# Altium schematic symbol library transistors.schlib: 30 symbols
Pins are listed as number, name and electrical type; pins without a type are passive.

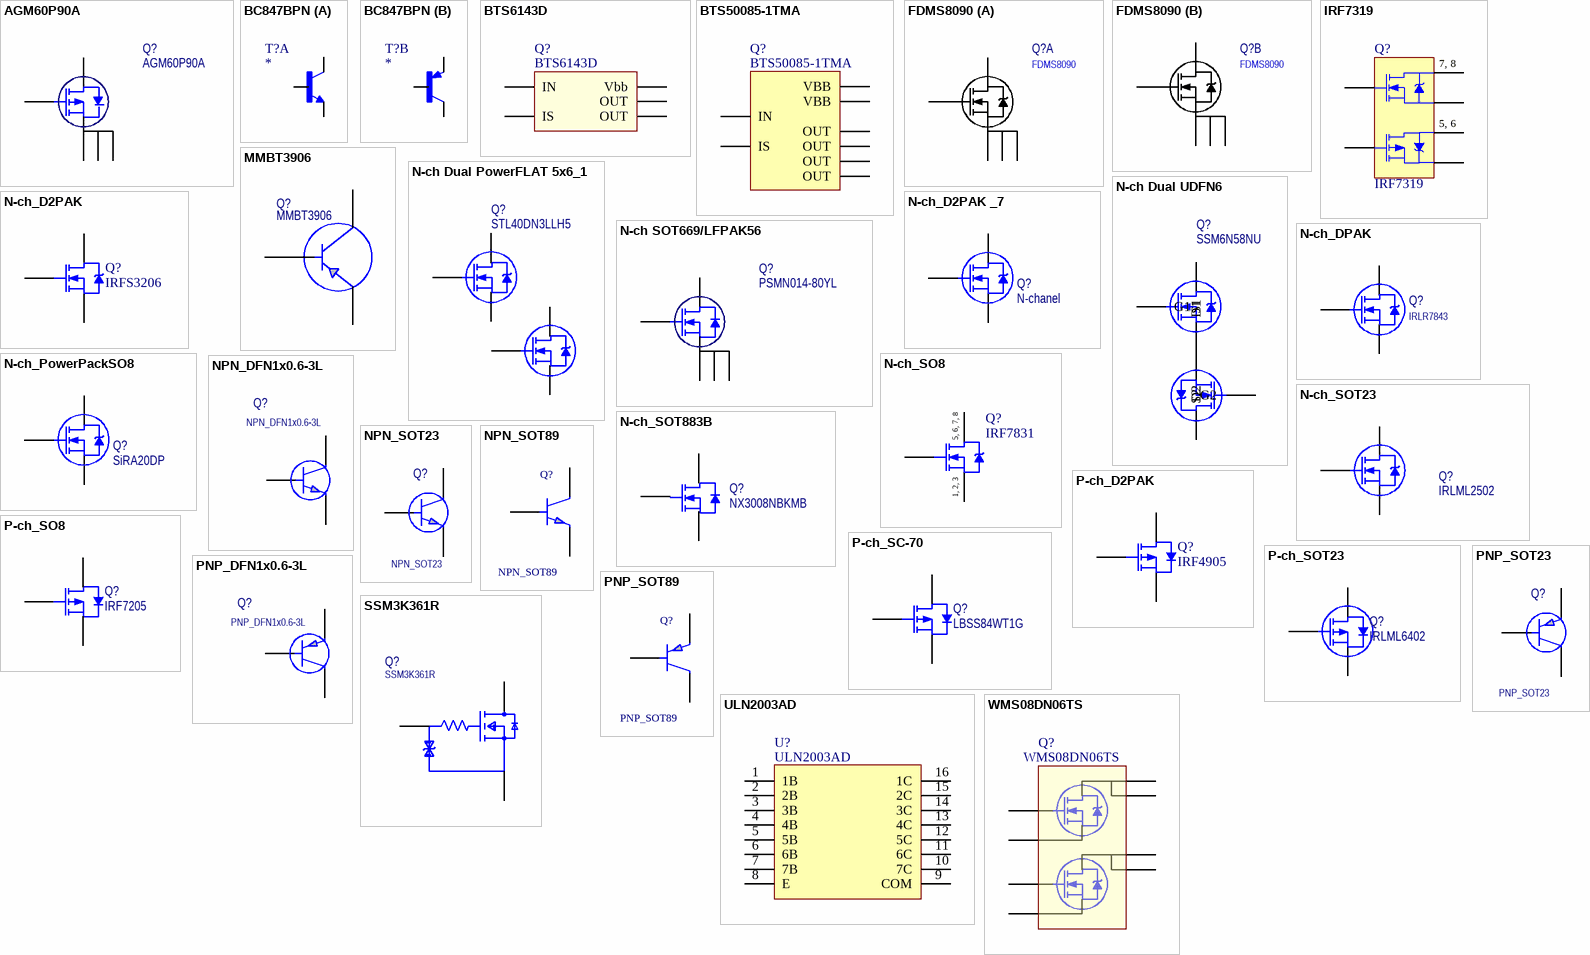
[diagram p0: symbols AGM60P90A to WMS08DN06TS]

## AGM60P90A
designator Q?
Power MOSFET P-ch; Part: AGM60P90A; JLCPCBPart: C5373095
footprint PDFN-8(5x6)
pins: 1 S "source", 2 S "source", 3 S "source", 4 G "gate", 5 D "mounting base; connected to drain"

## BC847BPN
designator T?
Bipolar (BJT) Transistor Array NPN, PNP 45V 100mA 100MHz 300mW Surface Mount 6-TSSOP; MP: BC847BPN; MF: Nexperia USA; Package: SOT-363 Nexperia USA; Purchase-URL: https://pricing.snapeda.com/search/part/BC847BPN/?ref=eda; Price: None; Availability: In Stock; Check_prices: https://www.snapeda.com/parts/BC847BPN/Nexperia/view-part/?ref=eda; Value: *; SnapEDA_Link: https://www.snapeda.com/parts/BC847BPN/Nexperia/view-part/?ref=snap; Part: BC847BPN
footprint SOT363
part A pins: 1 E, 2 B, 6 C
part B pins: 3 C, 4 E, 5 B

## BTS6143D
designator Q?
footprint TO252-5
pins: 1 OUT, 2 IN, 3 Vbb, 4 IS, 5 OUT

## BTS50085-1TMA
designator Q?
footprint PG-TO220-7-4
pins: 1 OUT, 2 OUT, 3 IN, 4 VBB, 5 IS, 6 OUT, 7 OUT, 8 VBB

## FDMS8090
designator Q?
Dual N-ch Mosfet
footprint WDFN8 5x6, 1.27P (WDFN8 5x6, 1.27P ON semicond)
part A pins: 1 G, 2 S, 3 S, 4 S, 10 D
part B pins: 5 S, 6 S, 7 S, 8 G, 9 D

## IRF7319
designator Q?
HEXFET Power MOSFET; Published: 8-Jun-2000; LatestRevisionDate: 13-Apr-2006; LatestRevisionNote: IPC-7351 Footprint Added.; DatasheetVersion: Sep-1997; PackageVersion: Feb-2001; PackageReference: SO-8; Publisher: Altium Limited; PackageDescription: 8-Pin Plastic Small Outline Integrated Circuit 1.27 mm Pitch; Code_JEDEC: MS-012-AA; Code_IPC: SOIC127P600-8; ComponentLink1Description: Manufacturer Link; ComponentLink1URL: http://www.irf.com/; ComponentLink2Description: Datasheet; ComponentLink2URL: http://www.irf.com/product-info/datasheets/data/IRFN140.pdf
footprint SO-8 (SOIC, 8-Leads, Body 4.9x3.9mm, Pitch 1.27mm, IPC Medium Density)
footprint SO-8_L (SOIC, 8-Leads, Body 4.9x3.9mm, Pitch 1.27mm, IPC High Density)
footprint SO-8_M (SOIC, 8-Leads, Body 4.9x3.9mm, Pitch 1.27mm, IPC Low Density)
pins: 1 S1, 2 G1, 3 S2, 4 G2, 5 D2, 6 D2, 7 D1, 8 D1
text: 7, 8; 5, 6

## MMBT3906
designator Q?
footprint SOT23
pins: 1, 2, 3

## N-ch Dual PowerFLAT 5x6_1
designator Q?, comment STL40DN3LLH5
Dual N-ch Mosfet
footprint PowerFlat 5x6
pins: 1 G, 2 S, 3 D, 4 G, 5 S, 6 D

## N-ch Dual UDFN6
designator Q?, comment SSM6N58NU
Dual N-ch Mosfet
footprint UDFN6 (Tocshiba)
pins: 1 S1, 2 G1, 3 D2, 4 S2, 5 G2, 6 D1

## N-ch SOT669/LFPAK56
designator Q?, comment PSMN014-80YL
Power MOSFET
footprint SOT669_LFPAK56; Power-SO8 (DPAK, 4-Leads, Body 5x4.1mm, Pitch 1.27mm, IPC Low Density)
pins: 1 S "source", 2 S "source", 3 S "source", 4 G "gate", 5 D "mounting base; connected to drain"

## N-ch_D2PAK
designator Q?, comment IRFS3206
HEXFET Power MOSFET; Published: 17-Sep-2003; LatestRevisionDate: 20-Nov-2009; LatestRevisionNote: IPC-7351 Footprint Added.; DatasheetVersion: 2-Jan-2002; PackageReference: D2PAK; Publisher: Altium Limited; PackageDescription: 3-Pin Transistor Outline Package 2.54 mm Pitch, 15.1 mm Lead Span; ComponentLink1Description: Manufacturer Link; ComponentLink1URL: http://www.irf.com/; ComponentLink2Description: Datasheet; ComponentLink2URL: http://www.irf.com/product-info/datasheets/data/irl3713.pdf
footprint D2PAK
pins: 1 G, 2 D, 3 S

## N-ch_D2PAK _7
designator Q?, comment N-chanel
HEXFET Power MOSFET
footprint D2PAK_7
pins: 1 G, 2 S, 3 D

## N-ch_DPAK
designator Q?, comment IRLR7843
HEXFET Power MOSFET; Published: 17-Sep-2003; LatestRevisionDate: 20-Nov-2009; LatestRevisionNote: IPC-7351 Footprint Added.; DatasheetVersion: 2-Jan-2002; PackageReference: D2PAK; Publisher: Altium Limited; PackageDescription: 3-Pin Transistor Outline Package 2.54 mm Pitch, 15.1 mm Lead Span; ComponentLink1Description: Manufacturer Link; ComponentLink1URL: http://www.irf.com/; ComponentLink2Description: Datasheet; ComponentLink2URL: http://www.irf.com/product-info/datasheets/data/irl3713.pdf
footprint DPAK TO252AA
pins: 1 G, 2 D, 3 S

## N-ch_PowerPackSO8
designator Q?, comment SiRA20DP
N-ch_PowerPackSO8
footprint PowerPack SO-8
pins: 1 G, 2 S, 3 D

## N-ch_SO8
designator Q?, comment IRF7831
HEXFET Power MOSFET; Published: 17-Sep-2003; LatestRevisionDate: 13-Apr-2006; LatestRevisionNote: IPC-7351 Footprint Added.; DatasheetVersion: 10-Oct-2000; PackageVersion: Feb-2001; PackageReference: SO-8; Publisher: Altium Limited; PackageDescription: 8-Pin Plastic Small Outline Integrated Circuit 1.27 mm Pitch; Code_JEDEC: MS-012-AA; Code_IPC: SOIC127P600-8; ComponentLink1Description: Manufacturer Link; ComponentLink1URL: http://www.irf.com/; ComponentLink2Description: Datasheet; ComponentLink2URL: http://www.irf.com/product-info/datasheets/data/irf7805.pdf
footprint SO-8 (SOIC, 8-Leads, Body 4.9x3.9mm, Pitch 1.27mm, IPC Medium Density)
footprint SO-8_L (SOIC, 8-Leads, Body 4.9x3.9mm, Pitch 1.27mm, IPC High Density)
footprint SO-8_M (SOIC, 8-Leads, Body 4.9x3.9mm, Pitch 1.27mm, IPC Low Density)
pins: 1 S, 2 S, 3 S, 4 G, 5 D, 6 D, 7 D, 8 D
text: 5, 6, 7, 8; 1, 2, 3

## N-ch_SOT23
designator Q?, comment IRLML2502
N-Channel Enhancement Mode MOSFET; Published: 17-Dec-2003; DatasheetVersion: May-99; PackageVersion: 1996; PackageReference: SOT23; Publisher: Altium Limited; PackageDescription: SOT-23; 3 Leads; Body 3.1 x 2.5 mm, inc. leads (LxW max), Alternate Lead Configuration; ComponentLink1Description: Manufacturer Link; ComponentLink1URL: http://www.zetex.com/; ComponentLink2Description: Datasheet; ComponentLink2URL: www.zetex.com/3.0/pdf/ZXM61N02F.pdf
footprint SOT23
pins: 1 G, 2 S, 3 D

## N-ch_SOT883B
designator Q?, comment NX3008NBKMB
N-Channel  MOSFET; Published: 17-Dec-2003; DatasheetVersion: May-99; PackageVersion: 1996; PackageReference: SOT23; Publisher: Altium Limited; PackageDescription: SOT-23; 3 Leads; Body 3.1 x 2.5 mm, inc. leads (LxW max), Alternate Lead Configuration; ComponentLink1Description: Manufacturer Link; ComponentLink1URL: http://www.zetex.com/; ComponentLink2Description: Datasheet; ComponentLink2URL: www.zetex.com/3.0/pdf/ZXM61N02F.pdf
footprint SOT883B (DFN1006B-3
pins: 1 G, 2 S, 3 D

## NPN_DFN1x0.6-3L
designator Q?
Part: MMBT3904DC; JLCPCBPart: C22470319
footprint DFN1006-3_L1.0-W0.6-P0.35-BR_BC846BM
pins: 1, 2, 3

## NPN_SOT23
designator Q?
Part: BC847B,215
footprint SOT23
pins: 1, 2, 3

## NPN_SOT89
designator Q?
footprint SOT89
pins: 1, 2, 3, 4

## P-ch_D2PAK
designator Q?, comment IRF4905
HEXFET Power MOSFET; Published: 17-Dec-2003; DatasheetVersion: Jul-99; PackageVersion: 1996; PackageReference: SOT23; Publisher: Altium Limited; PackageDescription: SOT-23; 3 Leads; Body 3.1 x 2.5 mm, inc. leads (LxW max), Alternate Lead Configuration; ComponentLink1Description: Manufacturer Link; ComponentLink1URL: http://www.zetex.com/; ComponentLink2Description: Datasheet; ComponentLink2URL: www.zetex.com/3.0/pdf/ZXM61P02F.pdf
footprint D2PAK
pins: 1 G, 2 D, 3 S

## P-ch_SC-70
designator Q?, comment LBSS84WT1G
20V P-Channel Enhancement Mode MOSFET; Part: LBSS84WT1G; JLCPCBPart: C383208
footprint SC-70-3_L2.1-W1.3-P1.30-LS2.1-BR
pins: 1 G, 2 S, 3 D

## P-ch_SO8
designator Q?, comment IRF7205
30V P-Channel  MOSFET
footprint SO-8_M (SOIC, 8-Leads, Body 4.9x3.9mm, Pitch 1.27mm, IPC Low Density)
pins: 1 S, 2 S, 3 S, 4 G, 5 D, 6 D, 7 D, 8 D

## P-ch_SOT23
designator Q?, comment IRLML6402
20V P-Channel Enhancement Mode MOSFET; Published: 17-Dec-2003; DatasheetVersion: Jul-99; PackageVersion: 1996; PackageReference: SOT23; Publisher: Altium Limited; PackageDescription: SOT-23; 3 Leads; Body 3.1 x 2.5 mm, inc. leads (LxW max), Alternate Lead Configuration; ComponentLink1Description: Manufacturer Link; ComponentLink1URL: http://www.zetex.com/; ComponentLink2Description: Datasheet; ComponentLink2URL: www.zetex.com/3.0/pdf/ZXM61P02F.pdf
footprint SOT23
pins: 1 G, 2 S, 3 D

## PNP_DFN1x0.6-3L
designator Q?
Part: MMBT3906DC; JLCPCBPart: C22470320
footprint DFN1006-3_L1.0-W0.6-P0.35-BR_BC846BM
pins: 1, 2, 3

## PNP_SOT23
designator Q?
Part: BC857
footprint SOT23
pins: 1, 2, 3

## PNP_SOT89
designator Q?
footprint SOT89
pins: 1, 2, 3, 4

## SSM3K361R
designator Q?
footprint FP-2-3Z1S-MFG
pins: 1 Gate, 2 Source, 3 Drain

## ULN2003AD
designator U?
footprint SOIC-16
pins: 1 1B, 2 2B, 3 3B, 4 4B, 5 5B, 6 6B, 7 7B, 8 E, 9 COM, 10 7C, 11 6C, 12 5C, 13 4C, 14 3C, 15 2C, 16 1C

## WMS08DN06TS
designator Q?
60V Dual N-Channel Enhancement Mode Power MOSFET
footprint SOP-8L (SOP, 8-Leads, Body 4,93x3,90mm, Pitch 1,27mm, IPC Medium Density)
pins: 1 S1, 2 G1, 3 S2, 4 G2, 5 D2, 6 D2, 7 D1, 8 D1